# EAGLE library part IMU_LSM6DSO (library custom v138)
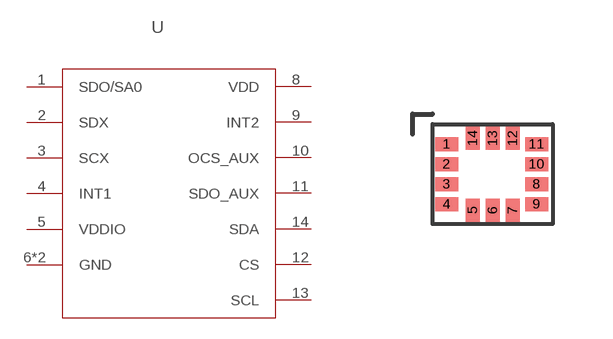
[diagram p0: symbol with the pads of IMU_LGA-14L_LSM6DS0; footprint IMU_LGA-14L_LSM6DS0]

Designator prefix U

## IMU_LSM6DSOLSM6SDSO (CREATOR: TAHSEEN; DIST: DIGIKEY; DISTPN: 497-18367-1-ND)  [IMU_LGA-14L_LSM6DS0]
1  SDO/SA0
2  SDX
3  SCX
4  INT1
5  VDDIO
6  GND
7  GND
8  VDD
9  INT2
10  OCS_AUX
11  SDO_AUX
12  CS
13  SCL
14  SDA

## Footprint IMU_LGA-14L_LSM6DS0 (pad centres in mm)
smd 0.575 x 0.35: 1 -1.15,0.75; 2 -1.15,0.25; 3 -1.15,-0.25; 4 -1.15,-0.75; 8 1.1,-0.25; 9 1.1,-0.75; 10 1.1,0.25; 11 1.1,0.75
smd 0.35 x 0.575: 5 -0.5,-0.9; 6 0,-0.9; 7 0.5,-0.9; 12 0.5,0.9; 13 0,0.9; 14 -0.5,0.9